# EAGLE library part ATD_CH12864F-SPI (library mylib2)
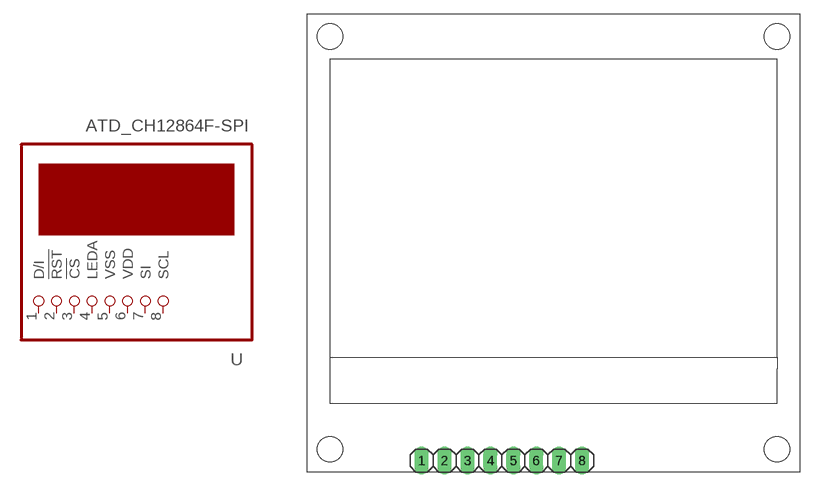
[diagram p6: symbol with the pads of ATD-CH12864F-SPI; footprint ATD-CH12864F-SPI]

Designator prefix -

## ATD_CH12864F-SPI  [ATD-CH12864F-SPI]
1  D/I  pas
2  !RST  pas
3  !CS  pas
4  LEDA  pas
5  VSS  pas
6  VDD  pas
7  SI  pas
8  SCL  pas

## Footprint ATD-CH12864F-SPI (pad centres in mm)
drill 1.016 long: 1 12.7,1.27; 2 15.24,1.27; 3 17.78,1.27; 4 20.32,1.27; 5 22.86,1.27; 6 25.4,1.27; 7 27.94,1.27; 8 30.48,1.27
hole 2.8 at 2.54,2.54
hole 2.8 at 52.07,2.54
hole 2.8 at 2.54,48.26
hole 2.8 at 52.07,48.26